# Altium footprint library DSHP03TS-S.PcbLib: 1 footprints
Each footprint in its own frame and in the unit in brackets; x right, y up, seen from the top. Pads: shape width x height; smd on the part's side, far side on the other; paste and mask are expansions set on the pad; w line width, h text height; cw(c..) or ccw(c..) is an arc to the next point about the centre after c.
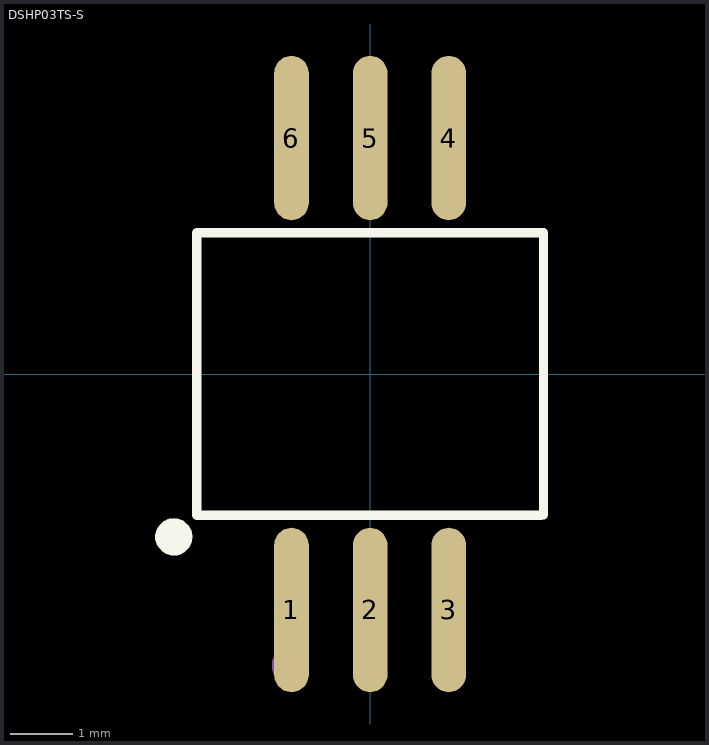
[diagram p0: the footprint, top view; thin cyan lines are the x and y axes]

## DSHP03TS-S [mm]
height 0.9
pads (6):
  oval 0.56x2.655 smd: 1(-1.27,-3.81) 2(0,-3.81) 3(1.27,-3.81) 4(1.27,3.81) 5(0,3.81) 6(-1.27,3.81)
Top Overlay:
  circle w0.3: c-3.17,-2.63 r0.15
  lines w0.152: -2.8,-2.28 2.762,-2.28 ; -2.8,-2.27 -2.8,2.28 2.762,2.28 ; 2.8,-2.27 2.8,2.28
Top Assembly:
  lines w0.1: 2.79,-2.28 -2.8,-2.28 -2.8,2.28 2.8,2.28 2.8,-2.28
  text "'.Designator'" at -0.95,0.075 h0.7
Mechanical 15:
  circle w0.3: c-1.287,-4.704 r0.15
3D body "dshp03ts-s.stp": height 2.42, standoff 0.02, extent -2.71,-4.25 2.7,4.25